# EAGLE library part OLIMEX_IC_SY7208 (library A10-A20-OLINUXINO-MICRO-4GB_Rev_D)
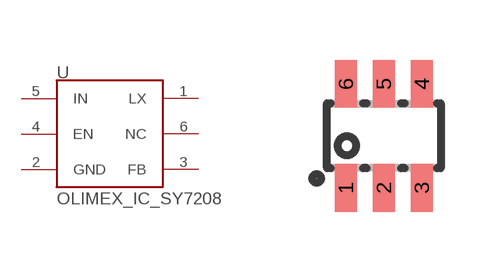
[diagram p16: symbol with the pads of OLIMEX_IC_SOT23-6; footprint OLIMEX_IC_SOT23-6]

Designator prefix U

## OLIMEX_IC_SY7208  [OLIMEX_IC_SOT23-6]
1  LX
2  GND
3  FB
4  EN
5  IN
6  NC

## Footprint OLIMEX_IC_SOT23-6 (pad centres in mm)
smd 0.55 x 1.2: 1 -0.95,-1.3; 2 0,-1.3; 3 0.95,-1.3; 4 0.95,1.3; 5 0,1.3; 6 -0.95,1.3